# Altium schematic symbol library CON5.Schlib: 2 symbols
Pins are listed as number, name and electrical type; pins without a type are passive.

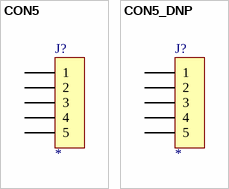
[diagram p0: symbols CON5 to CON5_DNP]

## CON5
designator J?
pins: 1, 2, 3, 4, 5

## CON5_DNP
designator J?  (no BOM)
pins: 1, 2, 3, 4, 5